# Altium footprint library NSC Switcher.PcbLib: 116 footprints (part 5 of 8)
Each footprint in its own frame and in the unit in brackets; x right, y up, seen from the top. Pads: shape width x height; smd on the part's side, far side on the other; paste and mask are expansions set on the pad; w line width, h text height; cw(c..) or ccw(c..) is an arc to the next point about the centre after c.
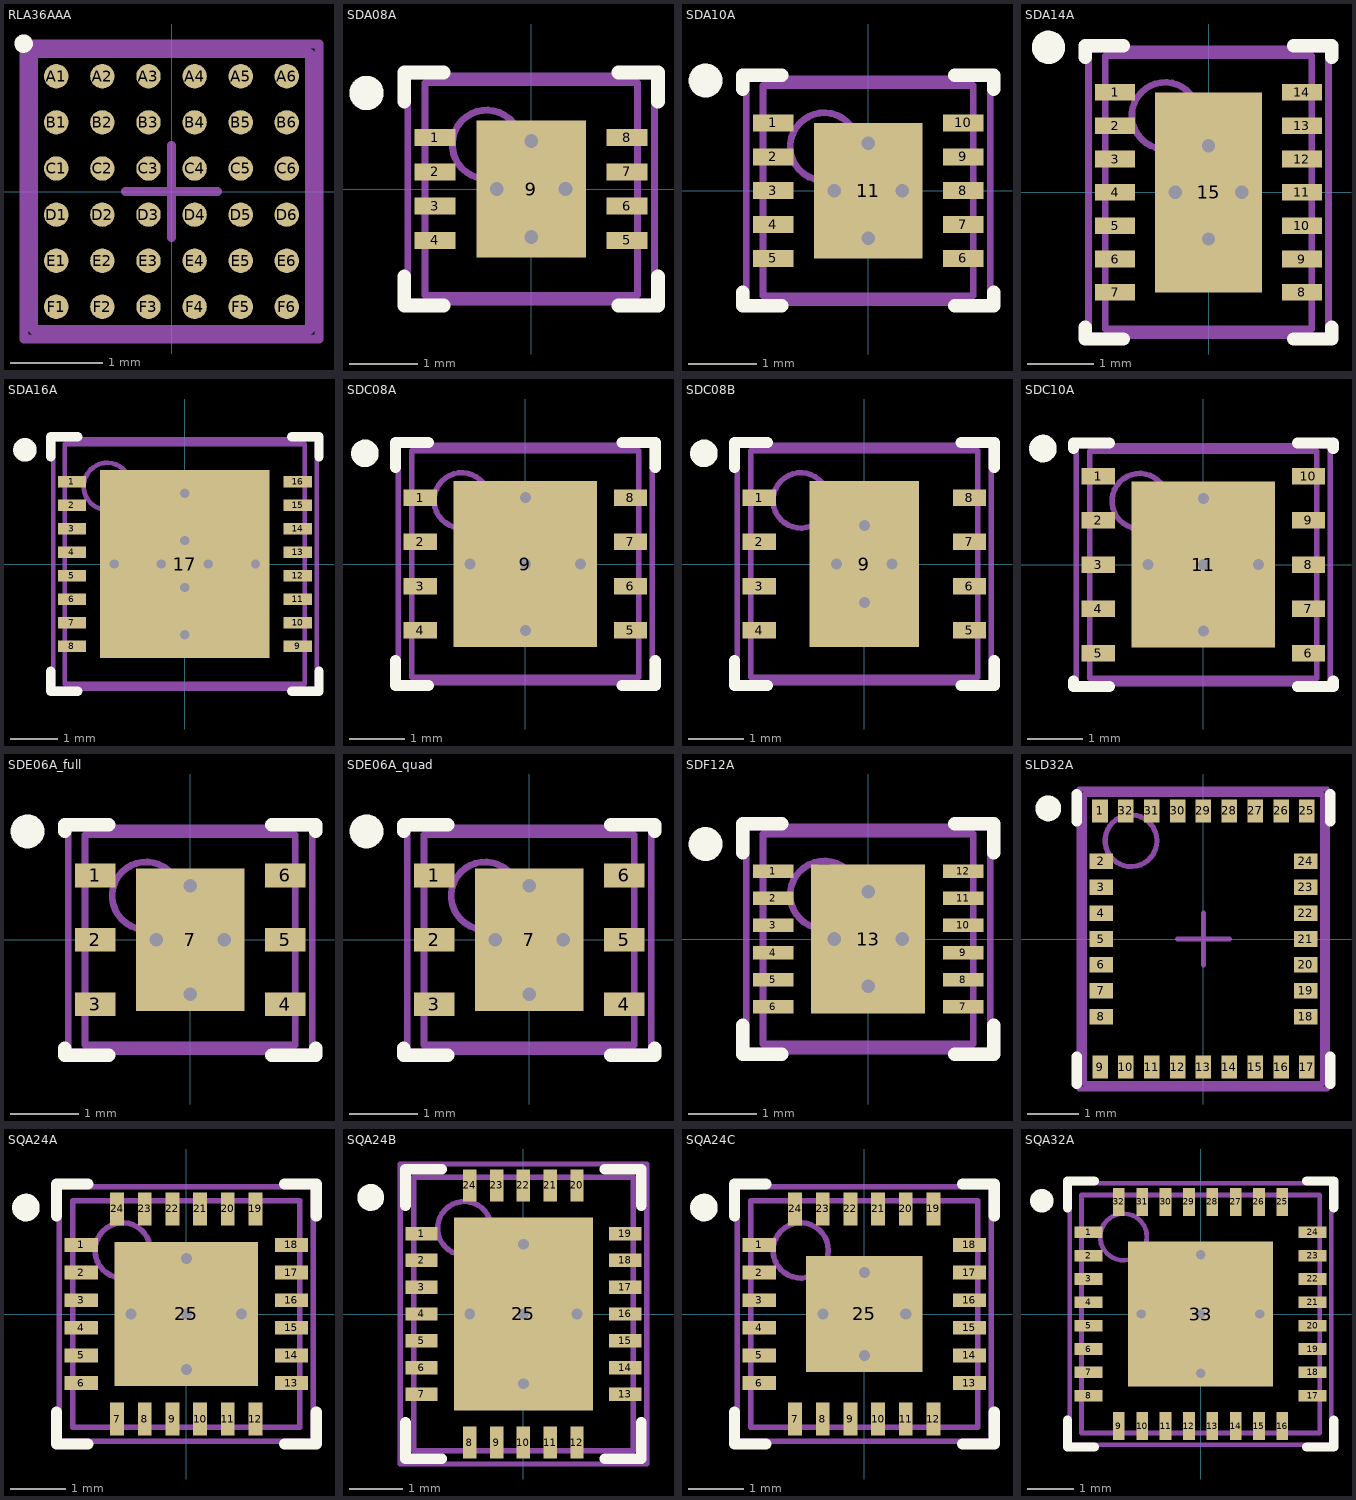
[diagram p4: the footprints below, top view; thin cyan lines are the x and y axes]

## RLA36AAA [mm] "Micro SMD, 36-Leads, Body 3x3mm, Pitch 0.5mm, NSC Recommended"
height 0.73
pads (36):
  round 0.265 smd paste-0.132 mask+0.05: A1(-1.25,1.25) A2(-0.75,1.25) A3(-0.25,1.25) A4(0.25,1.25) A5(0.75,1.25) A6(1.25,1.25) B1(-1.25,0.75) B2(-0.75,0.75) B3(-0.25,0.75) B4(0.25,0.75) B5(0.75,0.75) B6(1.25,0.75) C1(-1.25,0.25) C2(-0.75,0.25) C3(-0.25,0.25) C4(0.25,0.25) C5(0.75,0.25) C6(1.25,0.25) D1(-1.25,-0.25) D2(-0.75,-0.25) D3(-0.25,-0.25) D4(0.25,-0.25) D5(0.75,-0.25) D6(1.25,-0.25) E1(-1.25,-0.75) E2(-0.75,-0.75) E3(-0.25,-0.75) E4(0.25,-0.75) E5(0.75,-0.75) E6(1.25,-0.75) F1(-1.25,-1.25) F2(-0.75,-1.25) F3(-0.25,-1.25) F4(0.25,-1.25) F5(0.75,-1.25) F6(1.25,-1.25)
Top Overlay:
  circle w0.1: c-1.605,1.605 r0.05
Top Paste:
  drawing of 324 lines, arcs and shapes, not listed
Mechanical 13:
  lines w0.1: -1.5,-1.5 -1.5,1.5 1.5,1.5 1.5,-1.5 -1.5,-1.5
Mechanical 15:
  lines w0.1: -0.5,0 0.5,0 ; 0,-0.5 0,0.5 ; -1.6,-1.6 -1.6,1.6 1.6,1.6 1.6,-1.6 -1.6,-1.6
3D body: height 0.73, standoff 0, extent -1.5,-1.5 1.5,1.5

## SDA08A [mm] "SON, 8-Leads, Body 3x3mm, Pitch 0.5mm, NSC Recommended"
height 0.8
pads (9):
  rect 0.6x0.25 smd paste-0.125 mask+0.051: 1(-1.4,0.75) 2(-1.4,0.25) 3(-1.4,-0.25) 4(-1.4,-0.75) 5(1.4,-0.75) 6(1.4,-0.25) 7(1.4,0.25) 8(1.4,0.75)
  rect 1.6x2 smd paste-0.05 mask+0.051: 9(0,0)
via -0.5,0 diameter 0.5 hole 0.2
via 0.5,0 diameter 0.5 hole 0.2
via 0,0.7 diameter 0.5 hole 0.2
via 0,-0.7 diameter 0.5 hole 0.2
Top Overlay:
  circle w0.25: c-2.4,1.4 r0.125
  lines w0.2: -1.85,-1.275 -1.85,-1.7 -1.275,-1.7 ; -1.85,1.275 -1.85,1.7 -1.275,1.7 ; 1.275,-1.7 1.85,-1.7 1.85,-1.275 ; 1.275,1.7 1.85,1.7 1.85,1.275
Top Paste:
  region: 1.2,0.875 1.2,0.625 1.9,0.625 1.9,0.875
  region: 1.2,0.375 1.2,0.125 1.9,0.125 1.9,0.375
  region: 1.2,-0.125 1.2,-0.375 1.9,-0.375 1.9,-0.125
  region: 1.2,-0.625 1.2,-0.875 1.9,-0.875 1.9,-0.625
  region: -1.9,-0.625 -1.9,-0.875 -1.2,-0.875 -1.2,-0.625
  region: -1.9,-0.125 -1.9,-0.375 -1.2,-0.375 -1.2,-0.125
  region: -1.9,0.375 -1.9,0.125 -1.2,0.125 -1.2,0.375
  region: -1.9,0.875 -1.9,0.625 -1.2,0.625 -1.2,0.875
Mechanical 13:
  circle w0.1: c-0.65,0.65 r0.5
  lines w0.1: -1.55,-1.55 1.55,-1.55 1.55,1.55 -1.55,1.55 -1.55,-1.55
Mechanical 15:
  lines w0.1: -0.5,0 0.5,0 ; 0,-0.5 0,0.5 ; -1.8,-1.65 1.8,-1.65 1.8,1.65 -1.8,1.65 -1.8,-1.65
3D body: height 0.8, standoff 0, extent -1.55,-1.55 1.55,1.55

## SDA10A [mm] "SON, 10-Leads, Body 3x3 mm, Pitch 0.5mm, NSC Recommended"
height 0.8
pads (11):
  rect 0.6x0.25 smd paste-0.125 mask+0.051: 1(-1.4,1) 2(-1.4,0.5) 3(-1.4,0) 4(-1.4,-0.5) 5(-1.4,-1) 6(1.4,-1) 7(1.4,-0.5) 8(1.4,0) 9(1.4,0.5) 10(1.4,1)
  rect 1.6x2 smd paste-0.05 mask+0.051: 11(0,0)
via -0.5,0 diameter 0.5 hole 0.2
via 0.5,0 diameter 0.5 hole 0.2
via 0,0.7 diameter 0.5 hole 0.2
via 0,-0.7 diameter 0.5 hole 0.2
Top Overlay:
  circle w0.25: c-2.4,1.625 r0.125
  lines w0.2: -1.85,-1.5 -1.85,-1.7 -1.275,-1.7 ; -1.85,1.5 -1.85,1.7 -1.275,1.7 ; 1.275,-1.7 1.85,-1.7 1.85,-1.5 ; 1.275,1.7 1.85,1.7 1.85,1.5
Top Paste:
  rectangle: -1.9,0.875 -1.2,1.125
  rectangle: -1.9,0.375 -1.2,0.625
  rectangle: -1.9,-0.125 -1.2,0.125
  rectangle: -1.9,-0.625 -1.2,-0.375
  rectangle: -1.9,-1.125 -1.2,-0.875
  region: 1.9,1.125 1.2,1.125 1.2,0.875 1.9,0.875
  region: 1.9,0.625 1.2,0.625 1.2,0.375 1.9,0.375
  region: 1.9,0.125 1.2,0.125 1.2,-0.125 1.9,-0.125
  region: 1.9,-0.375 1.2,-0.375 1.2,-0.625 1.9,-0.625
  region: 1.9,-0.875 1.2,-0.875 1.2,-1.125 1.9,-1.125
Mechanical 13:
  circle w0.1: c-0.65,0.65 r0.5
  lines w0.1: -1.55,-1.55 -1.55,1.55 1.55,1.55 1.55,-1.55 -1.55,-1.55
Mechanical 15:
  lines w0.1: -0.5,0 0.5,0 ; 0,-0.5 0,0.5 ; -1.8,-1.65 -1.8,1.65 1.8,1.65 1.8,-1.65 -1.8,-1.65
3D body: height 0.8, standoff 0, extent -1.55,-1.55 1.55,1.55

## SDA14A [mm] "SON, 14-Leads, Body 4x3mm, Pitch 0.5mm, NSC Recommended"
height 0.8
pads (15):
  rect 0.6x0.25 smd paste-0.125 mask+0.051: 1(-1.4,1.5) 2(-1.4,1) 3(-1.4,0.5) 4(-1.4,0) 5(-1.4,-0.5) 6(-1.4,-1) 7(-1.4,-1.5) 8(1.4,-1.5) 9(1.4,-1) 10(1.4,-0.5) 11(1.4,0) 12(1.4,0.5) 13(1.4,1) 14(1.4,1.5)
  rect 1.6x3 smd paste-0.8 mask+0.051: 15(0,0)
via -0.5,0 diameter 0.5 hole 0.2
via 0.5,0 diameter 0.5 hole 0.2
via 0,0.7 diameter 0.5 hole 0.2
via 0,-0.7 diameter 0.5 hole 0.2
Top Overlay:
  circle w0.25: c-2.4,2.175 r0.125
  lines w0.2: -1.85,-2.025 -1.85,-2.2 -1.275,-2.2 ; -1.85,2.025 -1.85,2.2 -1.275,2.2 ; 1.275,-2.2 1.85,-2.2 1.85,-2.025 ; 1.275,2.2 1.85,2.2 1.85,2.025
Top Paste:
  region: -0.7,-0.1 -0.7,-1.4 -0.1,-1.4 -0.1,-0.1
  region: -0.1,0.1 -0.1,1.4 -0.7,1.4 -0.7,0.1
  region: 0.7,0.1 0.7,1.4 0.1,1.4 0.1,0.1
  region: 0.1,-0.1 0.1,-1.4 0.7,-1.4 0.7,-0.1
  region: 1.2,1.625 1.2,1.375 1.9,1.375 1.9,1.625
  region: 1.2,1.125 1.2,0.875 1.9,0.875 1.9,1.125
  region: 1.2,0.625 1.2,0.375 1.9,0.375 1.9,0.625
  region: 1.2,0.125 1.2,-0.125 1.9,-0.125 1.9,0.125
  region: 1.2,-0.375 1.2,-0.625 1.9,-0.625 1.9,-0.375
  region: 1.2,-0.875 1.2,-1.125 1.9,-1.125 1.9,-0.875
  region: 1.2,-1.375 1.2,-1.625 1.9,-1.625 1.9,-1.375
  region: -1.9,-1.375 -1.9,-1.625 -1.2,-1.625 -1.2,-1.375
  region: -1.9,-0.875 -1.9,-1.125 -1.2,-1.125 -1.2,-0.875
  region: -1.9,-0.375 -1.9,-0.625 -1.2,-0.625 -1.2,-0.375
  region: -1.9,0.125 -1.9,-0.125 -1.2,-0.125 -1.2,0.125
  region: -1.9,0.625 -1.9,0.375 -1.2,0.375 -1.2,0.625
  region: -1.9,1.125 -1.9,0.875 -1.2,0.875 -1.2,1.125
  region: -1.9,1.625 -1.9,1.375 -1.2,1.375 -1.2,1.625
Mechanical 13:
  circle w0.1: c-0.65,1.15 r0.5
  lines w0.1: -1.55,-2.05 1.55,-2.05 1.55,2.05 -1.55,2.05 -1.55,-2.05
Mechanical 15:
  lines w0.1: -0.5,0 0.5,0 ; 0,-0.5 0,0.5 ; -1.8,-2.15 1.8,-2.15 1.8,2.15 -1.8,2.15 -1.8,-2.15
3D body: height 0.8, standoff 0, extent -1.55,-2.05 1.55,2.05

## SDA16A [mm] "SON, 16-Leads, Body 5x5mm, Pitch 0.5mm, NSC Recommended"
height 0.8
pads (17):
  rect 0.6x0.25 smd paste-0.125 mask+0.051: 1(-2.4,1.75) 2(-2.4,1.25) 3(-2.4,0.75) 4(-2.4,0.25) 5(-2.4,-0.25) 6(-2.4,-0.75) 7(-2.4,-1.25) 8(-2.4,-1.75) 9(2.4,-1.75) 10(2.4,-1.25) 11(2.4,-0.75) 12(2.4,-0.25) 13(2.4,0.25) 14(2.4,0.75) 15(2.4,1.25) 16(2.4,1.75)
  rect 3.6x4 smd paste-1.8 mask+0.051: 17(0,0)
via -1.5,0 diameter 0.5 hole 0.2
via 0,-1.5 diameter 0.5 hole 0.2
via 0,1.5 diameter 0.5 hole 0.2
via 1.5,0 diameter 0.5 hole 0.2
via -0.5,0 diameter 0.5 hole 0.2
via 0.5,0 diameter 0.5 hole 0.2
via 0,-0.5 diameter 0.5 hole 0.2
via 0,0.5 diameter 0.5 hole 0.2
Top Overlay:
  circle w0.25: c-3.4,2.425 r0.125
  lines w0.2: -2.85,-2.275 -2.85,-2.7 -2.275,-2.7 ; -2.85,2.275 -2.85,2.7 -2.275,2.7 ; 2.275,-2.7 2.85,-2.7 2.85,-2.275 ; 2.275,2.7 2.85,2.7 2.85,2.275
Top Paste:
  region: -1.7,-0.1 -1.7,-1.9 -0.1,-1.9 -0.1,-0.1
  region: -0.1,0.1 -0.1,1.9 -1.7,1.9 -1.7,0.1
  region: 1.7,0.1 1.7,1.9 0.1,1.9 0.1,0.1
  region: 2.2,1.875 2.2,1.625 2.9,1.625 2.9,1.875
  region: 2.2,1.375 2.2,1.125 2.9,1.125 2.9,1.375
  region: 2.2,0.875 2.2,0.625 2.9,0.625 2.9,0.875
  region: 2.2,0.375 2.2,0.125 2.9,0.125 2.9,0.375
  region: 2.2,-0.125 2.2,-0.375 2.9,-0.375 2.9,-0.125
  region: 2.2,-0.625 2.2,-0.875 2.9,-0.875 2.9,-0.625
  region: 2.2,-1.125 2.2,-1.375 2.9,-1.375 2.9,-1.125
  region: 2.2,-1.625 2.2,-1.875 2.9,-1.875 2.9,-1.625
  region: -2.9,-1.625 -2.9,-1.875 -2.2,-1.875 -2.2,-1.625
  region: -2.9,-1.125 -2.9,-1.375 -2.2,-1.375 -2.2,-1.125
  region: -2.9,-0.625 -2.9,-0.875 -2.2,-0.875 -2.2,-0.625
  region: -2.9,-0.125 -2.9,-0.375 -2.2,-0.375 -2.2,-0.125
  region: -2.9,0.375 -2.9,0.125 -2.2,0.125 -2.2,0.375
  region: -2.9,0.875 -2.9,0.625 -2.2,0.625 -2.2,0.875
  region: -2.9,1.375 -2.9,1.125 -2.2,1.125 -2.2,1.375
  region: -2.9,1.875 -2.9,1.625 -2.2,1.625 -2.2,1.875
  region: 0.1,-0.1 0.1,-1.9 1.7,-1.9 1.7,-0.1
Mechanical 13:
  circle w0.1: c-1.65,1.65 r0.5
  lines w0.1: -2.55,-2.55 -2.55,2.55 2.55,2.55 2.55,-2.55 -2.55,-2.55
Mechanical 15:
  lines w0.1: -0.5,0 0.5,0 ; 0,-0.5 0,0.5 ; -2.8,-2.65 -2.8,2.65 2.8,2.65 2.8,-2.65 -2.8,-2.65
3D body: height 0.8, standoff 0, extent -2.55,-2.55 2.55,2.55

## SDC08A [mm] "SON, 8-Leads, Body 4x4mm, Pitch 0.8mm, NSC Recommended"
height 0.8
pads (9):
  rect 0.6x0.3 smd paste-0.15 mask+0.051: 1(-1.9,1.2) 2(-1.9,0.4) 3(-1.9,-0.4) 4(-1.9,-1.2) 5(1.9,-1.2) 6(1.9,-0.4) 7(1.9,0.4) 8(1.9,1.2)
  rect 2.6x3 smd paste-1.5 mask+0.051: 9(0,0)
via 0,-1.2 diameter 0.5 hole 0.2
via 0,1.2 diameter 0.5 hole 0.2
via 1,0 diameter 0.5 hole 0.2
via 0,0 diameter 0.5 hole 0.2
via -1,0 diameter 0.5 hole 0.2
Top Overlay:
  circle w0.25: c-2.9,2 r0.125
  lines w0.2: -2.35,-1.75 -2.35,-2.2 -1.75,-2.2 ; -2.35,1.75 -2.35,2.2 -1.75,2.2 ; 1.75,-2.2 2.35,-2.2 2.35,-1.75 ; 1.75,2.2 2.35,2.2 2.35,1.75
Top Paste:
  region: -1.7,1.35 -2.4,1.35 -2.4,1.05 -1.7,1.05
  region: -1.7,0.55 -2.4,0.55 -2.4,0.25 -1.7,0.25
  region: -1.7,-0.25 -2.4,-0.25 -2.4,-0.55 -1.7,-0.55
  region: -1.7,-1.05 -2.4,-1.05 -2.4,-1.35 -1.7,-1.35
  rectangle: 1.7,-1.35 2.4,-1.05
  rectangle: 1.7,-0.55 2.4,-0.25
  rectangle: 1.7,0.25 2.4,0.55
  rectangle: 1.7,1.05 2.4,1.35
  rectangle: -1.2,0.1 -0.1,1.4
  region: 1.2,1.4 0.1,1.4 0.1,0.1 1.2,0.1
  region: 1.2,-0.1 0.1,-0.1 0.1,-1.4 1.2,-1.4
  rectangle: -1.2,-1.4 -0.1,-0.1
Mechanical 13:
  circle w0.1: c-1.15,1.15 r0.5
  lines w0.1: -2.05,-2.05 -2.05,2.05 2.05,2.05 2.05,-2.05 -2.05,-2.05
Mechanical 15:
  lines w0.1: -0.5,0 0.5,0 ; 0,-0.5 0,0.5 ; -2.3,-2.15 -2.3,2.15 2.3,2.15 2.3,-2.15 -2.3,-2.15
3D body: height 0.8, standoff 0, extent -2.05,-2.05 2.05,2.05

## SDC08B [mm] "SON, 8-Leads, Body 4x4mm, Pitch 0.8mm, NSC Recommended"
height 0.8
pads (9):
  rect 0.6x0.3 smd paste-0.15 mask+0.051: 1(-1.9,1.2) 2(-1.9,0.4) 3(-1.9,-0.4) 4(-1.9,-1.2) 5(1.9,-1.2) 6(1.9,-0.4) 7(1.9,0.4) 8(1.9,1.2)
  rect 1.98x3 smd paste-1.5 mask+0.051: 9(0,0)
via 0,-0.7 diameter 0.5 hole 0.2
via 0,0.7 diameter 0.5 hole 0.2
via 0.5,0 diameter 0.5 hole 0.2
via -0.5,0 diameter 0.5 hole 0.2
Top Overlay:
  circle w0.25: c-2.9,2 r0.125
  lines w0.2: -2.35,-1.75 -2.35,-2.2 -1.75,-2.2 ; -2.35,1.75 -2.35,2.2 -1.75,2.2 ; 1.75,-2.2 2.35,-2.2 2.35,-1.75 ; 1.75,2.2 2.35,2.2 2.35,1.75
Top Paste:
  region: -1.7,1.35 -2.4,1.35 -2.4,1.05 -1.7,1.05
  region: -1.7,0.55 -2.4,0.55 -2.4,0.25 -1.7,0.25
  region: -1.7,-0.25 -2.4,-0.25 -2.4,-0.55 -1.7,-0.55
  region: -1.7,-1.05 -2.4,-1.05 -2.4,-1.35 -1.7,-1.35
  rectangle: 1.7,-1.35 2.4,-1.05
  rectangle: 1.7,-0.55 2.4,-0.25
  rectangle: 1.7,0.25 2.4,0.55
  rectangle: 1.7,1.05 2.4,1.35
  region: 0.89,-0.15 0.15,-0.15 0.15,-1.4 0.89,-1.4
  rectangle: -0.89,-1.4 -0.15,-0.15
  rectangle: -0.89,0.15 -0.15,1.4
  region: 0.89,1.4 0.15,1.4 0.15,0.15 0.89,0.15
Mechanical 13:
  circle w0.1: c-1.15,1.15 r0.5
  lines w0.1: -2.05,-2.05 -2.05,2.05 2.05,2.05 2.05,-2.05 -2.05,-2.05
Mechanical 15:
  lines w0.1: -0.5,0 0.5,0 ; 0,-0.5 0,0.5 ; -2.3,-2.15 -2.3,2.15 2.3,2.15 2.3,-2.15 -2.3,-2.15
3D body: height 0.8, standoff 0, extent -2.05,-2.05 2.05,2.05

## SDC10A [mm] "SON, 10-Leads, Body 4x4 mm, Pitch 0.8mm, NSC Recommended"
height 0.8
pads (11):
  rect 0.6x0.3 smd paste-0.15 mask+0.051: 1(-1.9,1.6) 2(-1.9,0.8) 3(-1.9,0) 4(-1.9,-0.8) 5(-1.9,-1.6) 6(1.9,-1.6) 7(1.9,-0.8) 8(1.9,0) 9(1.9,0.8) 10(1.9,1.6)
  rect 2.6x3 smd paste-1.3 mask+0.051: 11(0,0)
via -1,0 diameter 0.5 hole 0.2
via 0,-1.2 diameter 0.5 hole 0.2
via 0,0 diameter 0.5 hole 0.2
via 0,1.2 diameter 0.5 hole 0.2
via 1,0 diameter 0.5 hole 0.2
Top Overlay:
  circle w0.25: c-2.9,2.1 r0.125
  lines w0.2: -2.35,-2.2 -2.35,-2.1 ; -2.35,2.1 -2.35,2.2 ; -2.345,-2.2 -1.7,-2.2 ; -2.345,2.2 -1.7,2.2 ; 1.7,-2.2 2.345,-2.2 ; 1.7,2.2 2.345,2.2 ; 2.35,-2.2 2.35,-2.1 ; 2.35,2.1 2.35,2.2
Top Paste:
  rectangle: 0.1,-1.4 1.2,-0.1
  region: -0.1,-0.1 -1.2,-0.1 -1.2,-1.4 -0.1,-1.4
  region: -0.1,1.4 -1.2,1.4 -1.2,0.1 -0.1,0.1
  rectangle: 0.1,0.1 1.2,1.4
  rectangle: -2.4,1.45 -1.7,1.75
  rectangle: -2.4,0.65 -1.7,0.95
  rectangle: -2.4,-0.15 -1.7,0.15
  rectangle: -2.4,-0.95 -1.7,-0.65
  rectangle: -2.4,-1.75 -1.7,-1.45
  region: 2.4,-1.45 1.7,-1.45 1.7,-1.75 2.4,-1.75
  region: 2.4,-0.65 1.7,-0.65 1.7,-0.95 2.4,-0.95
  region: 2.4,0.15 1.7,0.15 1.7,-0.15 2.4,-0.15
  region: 2.4,0.95 1.7,0.95 1.7,0.65 2.4,0.65
  region: 2.4,1.75 1.7,1.75 1.7,1.45 2.4,1.45
Mechanical 13:
  circle w0.1: c-1.15,1.15 r0.5
  lines w0.1: -2.05,-2.05 2.05,-2.05 2.05,2.05 -2.05,2.05 -2.05,-2.05
Mechanical 15:
  lines w0.1: -0.5,0 0.5,0 ; 0,-0.5 0,0.5 ; -2.3,-2.15 2.3,-2.15 2.3,2.15 -2.3,2.15 -2.3,-2.15
3D body: height 0.8, standoff 0, extent -2.049,-2.049 2.049,2.049

## SDE06A_full [mm] "SON, 6-Leads, Body 3x3 mm, Pitch 0.95mm, Full Paste, NSC Recommended"
height 0.8
pads (7):
  rect 0.6x0.35 smd paste-0.175 mask+0.051: 1(-1.4,0.95) 2(-1.4,0) 3(-1.4,-0.95) 4(1.4,-0.95) 5(1.4,0) 6(1.4,0.95)
  rect 1.6x2.1 smd paste-0.8 mask+0.051: 7(0,0)
via -0.5,0 diameter 0.5 hole 0.2
via 0,0.8 diameter 0.5 hole 0.2
via 0.5,0 diameter 0.5 hole 0.2
via 0,-0.8 diameter 0.5 hole 0.2
Top Overlay:
  circle w0.25: c-2.4,1.6 r0.125
  lines w0.2: -1.85,-1.6 -1.85,-1.7 -1.2,-1.7 ; -1.85,1.6 -1.85,1.7 -1.2,1.7 ; 1.2,-1.7 1.85,-1.7 1.85,-1.6 ; 1.2,1.7 1.85,1.7 1.85,1.6
Top Paste:
  rectangle: -1.9,0.775 -1.2,1.125
  rectangle: -1.9,-0.175 -1.2,0.175
  rectangle: -1.9,-1.125 -1.2,-0.775
  region: 1.9,-0.775 1.2,-0.775 1.2,-1.125 1.9,-1.125
  region: 1.9,0.175 1.2,0.175 1.2,-0.175 1.9,-0.175
  region: 1.9,1.125 1.2,1.125 1.2,0.775 1.9,0.775
  rectangle: -0.76,-1 0.76,1
Mechanical 13:
  circle w0.1: c-0.65,0.65 r0.5
  lines w0.1: -1.55,-1.55 -1.55,1.55 1.55,1.55 1.55,-1.55 -1.55,-1.55
Mechanical 15:
  lines w0.1: -0.5,0 0.5,0 ; 0,-0.5 0,0.5 ; -1.8,-1.65 1.8,-1.65 1.8,1.65 -1.8,1.65 -1.8,-1.65
3D body: height 0.8, standoff 0, extent -1.55,-1.55 1.55,1.55

## SDE06A_quad [mm] "SON, 6-Leads, Body 3x3 mm, Pitch 0.95mm, Quad Paste, NSC Recommended"
height 0.8
pads (7):
  rect 0.6x0.35 smd paste-0.175 mask+0.051: 1(-1.4,0.95) 2(-1.4,0) 3(-1.4,-0.95) 4(1.4,-0.95) 5(1.4,0) 6(1.4,0.95)
  rect 1.6x2.1 smd paste-0.8 mask+0.051: 7(0,0)
via 0,-0.8 diameter 0.5 hole 0.2
via 0.5,0 diameter 0.5 hole 0.2
via 0,0.8 diameter 0.5 hole 0.2
via -0.5,0 diameter 0.5 hole 0.2
Top Overlay:
  circle w0.25: c-2.4,1.6 r0.125
  lines w0.2: -1.85,-1.6 -1.85,-1.7 -1.2,-1.7 ; -1.85,1.6 -1.85,1.7 -1.2,1.7 ; 1.2,-1.7 1.85,-1.7 1.85,-1.6 ; 1.2,1.7 1.85,1.7 1.85,1.6
Top Paste:
  rectangle: 0.1,-0.95 0.7,-0.1
  region: -0.1,-0.1 -0.7,-0.1 -0.7,-0.95 -0.1,-0.95
  region: -0.1,0.95 -0.7,0.95 -0.7,0.1 -0.1,0.1
  rectangle: 0.1,0.1 0.7,0.95
  region: 1.9,1.125 1.2,1.125 1.2,0.775 1.9,0.775
  region: 1.9,0.175 1.2,0.175 1.2,-0.175 1.9,-0.175
  region: 1.9,-0.775 1.2,-0.775 1.2,-1.125 1.9,-1.125
  rectangle: -1.9,-1.125 -1.2,-0.775
  rectangle: -1.9,-0.175 -1.2,0.175
  rectangle: -1.9,0.775 -1.2,1.125
Mechanical 13:
  circle w0.1: c-0.65,0.65 r0.5
  lines w0.1: -1.55,-1.55 1.55,-1.55 1.55,1.55 -1.55,1.55 -1.55,-1.55
Mechanical 15:
  lines w0.1: -0.5,0 0.5,0 ; 0,-0.5 0,0.5 ; -1.8,-1.65 -1.8,1.65 1.8,1.65 1.8,-1.65 -1.8,-1.65
3D body: height 0.8, standoff 0, extent -1.55,-1.55 1.55,1.55

## SDF12A [mm] "SON, 12-Leads, Body 3x3mm, Pitch 0.4mm, NSC Recommended"
height 0.8
pads (13):
  rect 0.6x0.2 smd paste-0.125 mask+0.051: 1(-1.4,1) 2(-1.4,0.6) 3(-1.4,0.2) 4(-1.4,-0.2) 5(-1.4,-0.6) 6(-1.4,-1) 7(1.4,-1) 8(1.4,-0.6) 9(1.4,-0.2) 10(1.4,0.2) 11(1.4,0.6) 12(1.4,1)
  rect 1.68x2.2 smd paste-0.05 mask+0.051: 13(0,0)
via -0.5,0 diameter 0.5 hole 0.2
via 0.5,0 diameter 0.5 hole 0.2
via 0,0.7 diameter 0.5 hole 0.2
via 0,-0.7 diameter 0.5 hole 0.2
Top Overlay:
  circle w0.25: c-2.4,1.4 r0.125
  lines w0.2: -1.85,-1.275 -1.85,-1.7 -1.275,-1.7 ; -1.85,1.275 -1.85,1.7 -1.275,1.7 ; 1.275,-1.7 1.85,-1.7 1.85,-1.275 ; 1.275,1.7 1.85,1.7 1.85,1.275
Top Paste:
  region: 1.9,1.1 1.2,1.1 1.2,0.9 1.9,0.9
  region: 1.9,0.7 1.2,0.7 1.2,0.5 1.9,0.5
  region: 1.9,0.3 1.2,0.3 1.2,0.1 1.9,0.1
  region: 1.9,-0.1 1.2,-0.1 1.2,-0.3 1.9,-0.3
  region: 1.9,-0.5 1.2,-0.5 1.2,-0.7 1.9,-0.7
  region: 1.9,-0.9 1.2,-0.9 1.2,-1.1 1.9,-1.1
  rectangle: -1.9,-1.1 -1.2,-0.9
  rectangle: -1.9,-0.7 -1.2,-0.5
  rectangle: -1.9,-0.3 -1.2,-0.1
  rectangle: -1.9,0.1 -1.2,0.3
  rectangle: -1.9,0.5 -1.2,0.7
  rectangle: -1.9,0.9 -1.2,1.1
Mechanical 13:
  circle w0.1: c-0.65,0.65 r0.5
  lines w0.1: -1.55,-1.55 1.55,-1.55 1.55,1.55 -1.55,1.55 -1.55,-1.55
Mechanical 15:
  lines w0.1: -0.5,0 0.5,0 ; 0,-0.5 0,0.5 ; -1.8,-1.65 1.8,-1.65 1.8,1.65 -1.8,1.65 -1.8,-1.65
3D body: height 0.8, standoff 0, extent -1.55,-1.55 1.55,1.55

## SLD32A [mm] "PQFN, 32-Leads (9x7 pads), Body 4.5x5.5mm, Pitch 0.5mm, NSC Recommended"
height 0.8
pads (32):
  rect 0.3x0.45 smd paste-0.15 mask+0.051: 1(-2,2.475) 9(-2,-2.475) 10(-1.5,-2.475) 11(-1,-2.475) 12(-0.5,-2.475) 13(0,-2.475) 14(0.5,-2.475) 15(1,-2.475) 16(1.5,-2.475) 17(2,-2.475) 25(2,2.475) 26(1.5,2.475) 27(1,2.475) 28(0.5,2.475) 29(0,2.475) 30(-0.5,2.475) 31(-1,2.475) 32(-1.5,2.475)
  rect 0.45x0.3 smd paste-0.15 mask+0.051: 2(-1.975,1.5) 3(-1.975,1) 4(-1.975,0.5) 5(-1.975,0) 6(-1.975,-0.5) 7(-1.975,-1) 8(-1.975,-1.5) 18(1.975,-1.5) 19(1.975,-1) 20(1.975,-0.5) 21(1.975,0) 22(1.975,0.5) 23(1.975,1) 24(1.975,1.5)
Top Overlay:
  circle w0.25: c-3,2.525 r0.125
  lines w0.2: -2.45,-2.8 -2.45,-2.275 ; -2.45,2.275 -2.45,2.8 ; 2.45,-2.8 2.45,-2.275 ; 2.45,2.275 2.45,2.8
Top Paste:
  region: -2.15,2.8 -2.15,2.35 -1.85,2.35 -1.85,2.8
  region: -1.65,2.8 -1.65,2.35 -1.35,2.35 -1.35,2.8
  region: -1.15,2.8 -1.15,2.35 -0.85,2.35 -0.85,2.8
  region: -0.65,2.8 -0.65,2.35 -0.35,2.35 -0.35,2.8
  region: -0.15,2.8 -0.15,2.35 0.15,2.35 0.15,2.8
  region: 0.35,2.8 0.35,2.35 0.65,2.35 0.65,2.8
  region: 0.85,2.8 0.85,2.35 1.15,2.35 1.15,2.8
  region: 1.35,2.8 1.35,2.35 1.65,2.35 1.65,2.8
  region: 1.85,2.8 1.85,2.35 2.15,2.35 2.15,2.8
  region: 2.3,1.65 1.85,1.65 1.85,1.35 2.3,1.35
  region: 2.3,1.15 1.85,1.15 1.85,0.85 2.3,0.85
  region: 2.3,0.65 1.85,0.65 1.85,0.35 2.3,0.35
  region: 2.3,0.15 1.85,0.15 1.85,-0.15 2.3,-0.15
  region: 2.3,-0.35 1.85,-0.35 1.85,-0.65 2.3,-0.65
  region: 2.3,-0.85 1.85,-0.85 1.85,-1.15 2.3,-1.15
  region: 2.3,-1.35 1.85,-1.35 1.85,-1.65 2.3,-1.65
  region: 2.15,-2.8 2.15,-2.35 1.85,-2.35 1.85,-2.8
  region: 1.65,-2.8 1.65,-2.35 1.35,-2.35 1.35,-2.8
  region: 1.15,-2.8 1.15,-2.35 0.85,-2.35 0.85,-2.8
  region: 0.65,-2.8 0.65,-2.35 0.35,-2.35 0.35,-2.8
  region: 0.15,-2.8 0.15,-2.35 -0.15,-2.35 -0.15,-2.8
  region: -0.35,-2.8 -0.35,-2.35 -0.65,-2.35 -0.65,-2.8
  region: -0.85,-2.8 -0.85,-2.35 -1.15,-2.35 -1.15,-2.8
  region: -1.35,-2.8 -1.35,-2.35 -1.65,-2.35 -1.65,-2.8
  region: -1.85,-2.8 -1.85,-2.35 -2.15,-2.35 -2.15,-2.8
  rectangle: -2.3,-1.65 -1.85,-1.35
  rectangle: -2.3,-1.15 -1.85,-0.85
  rectangle: -2.3,-0.65 -1.85,-0.35
  rectangle: -2.3,-0.15 -1.85,0.15
  rectangle: -2.3,0.35 -1.85,0.65
  rectangle: -2.3,0.85 -1.85,1.15
  rectangle: -2.3,1.35 -1.85,1.65
Mechanical 13:
  circle w0.1: c-1.4,1.9 r0.5
  lines w0.1: -2.3,-2.8 2.3,-2.8 2.3,2.8 -2.3,2.8 -2.3,-2.8
Mechanical 15:
  lines w0.1: -0.5,0 0.5,0 ; 0,-0.5 0,0.5 ; 2.38,-2.9 -2.4,-2.9 -2.4,2.9 2.38,2.9 ; 2.4,-2.9 2.4,2.9
3D body: height 0.8, standoff 0, extent -2.299,-2.799 2.299,2.799

## SQA24A [mm] "QFN, 24-Leads, Body 4x4mm, Pitch 0.5mm, NSC Recommended"
height 0.8
pads (25):
  rect 0.6x0.25 smd paste-0.125 mask+0.051: 1(-1.9,1.25) 2(-1.9,0.75) 3(-1.9,0.25) 4(-1.9,-0.25) 5(-1.9,-0.75) 6(-1.9,-1.25) 13(1.9,-1.25) 14(1.9,-0.75) 15(1.9,-0.25) 16(1.9,0.25) 17(1.9,0.75) 18(1.9,1.25)
  rect 0.25x0.6 smd paste-0.125 mask+0.051: 7(-1.25,-1.9) 8(-0.75,-1.9) 9(-0.25,-1.9) 10(0.25,-1.9) 11(0.75,-1.9) 12(1.25,-1.9) 19(1.25,1.9) 20(0.75,1.9) 21(0.25,1.9) 22(-0.25,1.9) 23(-0.75,1.9) 24(-1.25,1.9)
  rect 2.6x2.6 smd paste-1.3 mask+0.051: 25(0,0)
via 0,-1 diameter 0.5 hole 0.2
via 0,1 diameter 0.5 hole 0.2
via -1,0 diameter 0.5 hole 0.2
via 1,0 diameter 0.5 hole 0.2
via 0,0 diameter 0.5 hole 0.2
Top Overlay:
  circle w0.25: c-2.9,1.925 r0.125
  lines w0.2: -2.35,-1.775 -2.35,-2.35 -1.775,-2.35 ; -2.35,1.775 -2.35,2.35 -1.775,2.35 ; 1.775,-2.35 2.35,-2.35 2.35,-1.775 ; 1.775,2.35 2.35,2.35 2.35,1.775
Top Paste:
  rectangle: 0.1,0.1 1.2,1.2
  region: -0.1,1.2 -1.2,1.2 -1.2,0.1 -0.1,0.1
  region: -0.1,-0.1 -1.2,-0.1 -1.2,-1.2 -0.1,-1.2
  rectangle: 0.1,-1.2 1.2,-0.1
  rectangle: -2.4,1.125 -1.7,1.375
  rectangle: -2.4,0.625 -1.7,0.875
  rectangle: -2.4,0.125 -1.7,0.375
  rectangle: -2.4,-0.375 -1.7,-0.125
  rectangle: -2.4,-0.875 -1.7,-0.625
  rectangle: -2.4,-1.375 -1.7,-1.125
  region: 1.375,-2.4 1.375,-1.7 1.125,-1.7 1.125,-2.4
  region: 0.875,-2.4 0.875,-1.7 0.625,-1.7 0.625,-2.4
  region: 0.375,-2.4 0.375,-1.7 0.125,-1.7 0.125,-2.4
  region: -0.125,-2.4 -0.125,-1.7 -0.375,-1.7 -0.375,-2.4
  region: -0.625,-2.4 -0.625,-1.7 -0.875,-1.7 -0.875,-2.4
  region: -1.125,-2.4 -1.125,-1.7 -1.375,-1.7 -1.375,-2.4
  region: 2.4,1.375 1.7,1.375 1.7,1.125 2.4,1.125
  region: 2.4,0.875 1.7,0.875 1.7,0.625 2.4,0.625
  region: 2.4,0.375 1.7,0.375 1.7,0.125 2.4,0.125
  region: 2.4,-0.125 1.7,-0.125 1.7,-0.375 2.4,-0.375
  region: 2.4,-0.625 1.7,-0.625 1.7,-0.875 2.4,-0.875
  region: 2.4,-1.125 1.7,-1.125 1.7,-1.375 2.4,-1.375
  region: -1.375,2.4 -1.375,1.7 -1.125,1.7 -1.125,2.4
  region: -0.875,2.4 -0.875,1.7 -0.625,1.7 -0.625,2.4
  region: -0.375,2.4 -0.375,1.7 -0.125,1.7 -0.125,2.4
  region: 0.125,2.4 0.125,1.7 0.375,1.7 0.375,2.4
  region: 0.625,2.4 0.625,1.7 0.875,1.7 0.875,2.4
  region: 1.125,2.4 1.125,1.7 1.375,1.7 1.375,2.4
Mechanical 13:
  circle w0.1: c-1.15,1.15 r0.5
  lines w0.1: -2.05,-2.05 2.05,-2.05 2.05,2.05 -2.05,2.05 -2.05,-2.05
Mechanical 15:
  lines w0.1: -0.5,0 0.5,0 ; 0,-0.5 0,0.5 ; -2.3,-2.3 2.3,-2.3 2.3,2.3 -2.3,2.3 -2.3,-2.3
3D body: height 0.8, standoff 0, extent -2.05,-2.05 2.05,2.05

## SQA24B [mm] "QFN, 24-Leads, Body 5x4mm, Pitch 0.5mm, NSC Recommended"
height 0.8
pads (25):
  rect 0.6x0.25 smd paste-0.3 mask+0.051: 1(-1.9,1.5) 2(-1.9,1) 3(-1.9,0.5) 4(-1.9,0) 5(-1.9,-0.5) 6(-1.9,-1) 7(-1.9,-1.5) 13(1.9,-1.5) 14(1.9,-1) 15(1.9,-0.5) 16(1.9,0) 17(1.9,0.5) 18(1.9,1) 19(1.9,1.5)
  rect 0.25x0.6 smd paste-0.3 mask+0.051: 8(-1,-2.4) 9(-0.5,-2.4) 10(0,-2.4) 11(0.5,-2.4) 12(1,-2.4) 20(1,2.4) 21(0.5,2.4) 22(0,2.4) 23(-0.5,2.4) 24(-1,2.4)
  rect 2.6x3.6 smd paste-1.3 mask+0.051: 25(0,0)
via 0,0 diameter 0.5 hole 0.2
via -1,0 diameter 0.5 hole 0.2
via 0,-1.3 diameter 0.5 hole 0.2
via 0,1.3 diameter 0.5 hole 0.2
via 1,0 diameter 0.5 hole 0.2
Top Overlay:
  circle w0.25: c-2.85,2.175 r0.125
  lines w0.2: -2.2,-2.025 -2.2,-2.7 -1.525,-2.7 ; -2.2,2.025 -2.2,2.7 -1.525,2.7 ; 1.525,-2.7 2.2,-2.7 2.2,-2.025 ; 1.525,2.7 2.2,2.7 2.2,2.025
Top Paste:
  region: 1.125,-2.9 1.125,-2.2 0.875,-2.2 0.875,-2.9
  region: 0.625,-2.9 0.625,-2.2 0.375,-2.2 0.375,-2.9
  region: 0.125,-2.9 0.125,-2.2 -0.125,-2.2 -0.125,-2.9
  region: -0.375,-2.9 -0.375,-2.2 -0.625,-2.2 -0.625,-2.9
  region: -0.875,-2.9 -0.875,-2.2 -1.125,-2.2 -1.125,-2.9
  rectangle: -2.4,-1.625 -1.7,-1.375
  rectangle: -2.4,-1.125 -1.7,-0.875
  rectangle: -2.4,-0.625 -1.7,-0.375
  rectangle: -2.4,-0.125 -1.7,0.125
  rectangle: -2.4,0.375 -1.7,0.625
  rectangle: -2.4,0.875 -1.7,1.125
  rectangle: -2.4,1.375 -1.7,1.625
  region: -1.125,2.9 -1.125,2.2 -0.875,2.2 -0.875,2.9
  region: -0.625,2.9 -0.625,2.2 -0.375,2.2 -0.375,2.9
  region: -0.125,2.9 -0.125,2.2 0.125,2.2 0.125,2.9
  region: 0.375,2.9 0.375,2.2 0.625,2.2 0.625,2.9
  region: 0.875,2.9 0.875,2.2 1.125,2.2 1.125,2.9
  region: 2.4,-1.375 1.7,-1.375 1.7,-1.625 2.4,-1.625
  region: 2.4,-0.875 1.7,-0.875 1.7,-1.125 2.4,-1.125
  region: 2.4,-0.375 1.7,-0.375 1.7,-0.625 2.4,-0.625
  region: 2.4,0.125 1.7,0.125 1.7,-0.125 2.4,-0.125
  region: 2.4,0.625 1.7,0.625 1.7,0.375 2.4,0.375
  region: 2.4,1.125 1.7,1.125 1.7,0.875 2.4,0.875
  region: 2.4,1.625 1.7,1.625 1.7,1.375 2.4,1.375
  rectangle: 0.1,0.1 1.2,1.7
  region: -0.1,1.7 -1.2,1.7 -1.2,0.1 -0.1,0.1
  region: -0.1,-0.1 -1.2,-0.1 -1.2,-1.7 -0.1,-1.7
  rectangle: 0.1,-1.7 1.2,-0.1
Mechanical 13:
  circle w0.1: c-1.1,1.6 r0.5
  lines w0.1: -2.05,-2.55 2.05,-2.55 2.05,2.55 -2.05,2.55 -2.05,-2.55
Mechanical 15:
  lines w0.1: -0.5,0 0.5,0 ; 0,-0.5 0,0.5 ; -2.3,-2.8 2.3,-2.8 2.3,2.8 -2.3,2.8 -2.3,-2.8
3D body: height 0.8, standoff 0, extent -2.05,-2.55 2.05,2.55

## SQA24C [mm] "QFN, 24-Leads, Body 4x4mm, Pitch 0.5mm, NSC Recommended"
height 0.8
pads (25):
  rect 0.6x0.25 smd paste-0.125 mask+0.051: 1(-1.9,1.25) 2(-1.9,0.75) 3(-1.9,0.25) 4(-1.9,-0.25) 5(-1.9,-0.75) 6(-1.9,-1.25) 13(1.9,-1.25) 14(1.9,-0.75) 15(1.9,-0.25) 16(1.9,0.25) 17(1.9,0.75) 18(1.9,1.25)
  rect 0.25x0.6 smd paste-0.125 mask+0.051: 7(-1.25,-1.9) 8(-0.75,-1.9) 9(-0.25,-1.9) 10(0.25,-1.9) 11(0.75,-1.9) 12(1.25,-1.9) 19(1.25,1.9) 20(0.75,1.9) 21(0.25,1.9) 22(-0.25,1.9) 23(-0.75,1.9) 24(-1.25,1.9)
  rect 2.1x2.1 smd paste-1.05 mask+0.051: 25(0,0)
via 0,-0.75 diameter 0.5 hole 0.2
via 0,0.75 diameter 0.5 hole 0.2
via -0.75,0 diameter 0.5 hole 0.2
via 0.75,0 diameter 0.5 hole 0.2
Top Overlay:
  circle w0.25: c-2.9,1.925 r0.125
  lines w0.2: -2.35,-1.775 -2.35,-2.35 -1.775,-2.35 ; -2.35,1.775 -2.35,2.35 -1.775,2.35 ; 1.775,-2.35 2.35,-2.35 2.35,-1.775 ; 1.775,2.35 2.35,2.35 2.35,1.775
Top Paste:
  rectangle: -2.4,1.125 -1.7,1.375
  rectangle: -2.4,0.625 -1.7,0.875
  rectangle: -2.4,0.125 -1.7,0.375
  rectangle: -2.4,-0.375 -1.7,-0.125
  rectangle: -2.4,-0.875 -1.7,-0.625
  rectangle: -2.4,-1.375 -1.7,-1.125
  region: 1.375,-2.4 1.375,-1.7 1.125,-1.7 1.125,-2.4
  region: 0.875,-2.4 0.875,-1.7 0.625,-1.7 0.625,-2.4
  region: 0.375,-2.4 0.375,-1.7 0.125,-1.7 0.125,-2.4
  region: -0.125,-2.4 -0.125,-1.7 -0.375,-1.7 -0.375,-2.4
  region: -0.625,-2.4 -0.625,-1.7 -0.875,-1.7 -0.875,-2.4
  region: -1.125,-2.4 -1.125,-1.7 -1.375,-1.7 -1.375,-2.4
  region: 2.4,1.375 1.7,1.375 1.7,1.125 2.4,1.125
  region: 2.4,0.875 1.7,0.875 1.7,0.625 2.4,0.625
  region: 2.4,0.375 1.7,0.375 1.7,0.125 2.4,0.125
  region: 2.4,-0.125 1.7,-0.125 1.7,-0.375 2.4,-0.375
  region: 2.4,-0.625 1.7,-0.625 1.7,-0.875 2.4,-0.875
  region: 2.4,-1.125 1.7,-1.125 1.7,-1.375 2.4,-1.375
  region: -1.375,2.4 -1.375,1.7 -1.125,1.7 -1.125,2.4
  region: -0.875,2.4 -0.875,1.7 -0.625,1.7 -0.625,2.4
  region: -0.375,2.4 -0.375,1.7 -0.125,1.7 -0.125,2.4
  region: 0.125,2.4 0.125,1.7 0.375,1.7 0.375,2.4
  region: 0.625,2.4 0.625,1.7 0.875,1.7 0.875,2.4
  region: 1.125,2.4 1.125,1.7 1.375,1.7 1.375,2.4
  rectangle: -0.95,-0.95 0.95,0.95
Mechanical 13:
  circle w0.1: c-1.15,1.15 r0.5
  lines w0.1: -2.05,-2.05 2.05,-2.05 2.05,2.05 -2.05,2.05 -2.05,-2.05
Mechanical 15:
  lines w0.1: -0.5,0 0.5,0 ; 0,-0.5 0,0.5 ; -2.3,-2.3 2.3,-2.3 2.3,2.3 -2.3,2.3 -2.3,-2.3
3D body: height 0.8, standoff 0, extent -2.05,-2.05 2.05,2.05

## SQA32A [mm] "QFN, 32-Leads, Body 5x5mm, Pitch 0.5mm, NSC Recommended"
height 0.8
pads (33):
  rect 0.6x0.25 smd paste-0.125 mask+0.051: 1(-2.4,1.75) 2(-2.4,1.25) 3(-2.4,0.75) 4(-2.4,0.25) 5(-2.4,-0.25) 6(-2.4,-0.75) 7(-2.4,-1.25) 8(-2.4,-1.75) 17(2.4,-1.75) 18(2.4,-1.25) 19(2.4,-0.75) 20(2.4,-0.25) 21(2.4,0.25) 22(2.4,0.75) 23(2.4,1.25) 24(2.4,1.75)
  rect 0.25x0.6 smd paste-0.125 mask+0.051: 9(-1.75,-2.4) 10(-1.25,-2.4) 11(-0.75,-2.4) 12(-0.25,-2.4) 13(0.25,-2.4) 14(0.75,-2.4) 15(1.25,-2.4) 16(1.75,-2.4) 25(1.75,2.4) 26(1.25,2.4) 27(0.75,2.4) 28(0.25,2.4) 29(-0.25,2.4) 30(-0.75,2.4) 31(-1.25,2.4) 32(-1.75,2.4)
  rect 3.1x3.1 smd paste-1.55 mask+0.051: 33(0,0)
via 0,-1.27 diameter 0.5 hole 0.2
via 1.27,0 diameter 0.5 hole 0.2
via 0,0 diameter 0.5 hole 0.2
via -1.27,0 diameter 0.5 hole 0.2
via 0,1.27 diameter 0.5 hole 0.2
Top Overlay:
  circle w0.25: c-3.4,2.425 r0.125
  lines w0.2: -2.85,-2.275 -2.85,-2.85 -2.275,-2.85 ; -2.85,2.275 -2.85,2.85 -2.275,2.85 ; 2.275,-2.85 2.85,-2.85 2.85,-2.275 ; 2.275,2.85 2.85,2.85 2.85,2.275
Top Paste:
  rectangle: 0.1,-1.4 1.4,-0.1
  region: -0.1,-0.1 -1.4,-0.1 -1.4,-1.4 -0.1,-1.4
  region: -0.1,1.4 -1.4,1.4 -1.4,0.1 -0.1,0.1
  rectangle: 0.1,0.1 1.4,1.4
  rectangle: -2.9,1.625 -2.2,1.875
  rectangle: -2.9,1.125 -2.2,1.375
  rectangle: -2.9,0.625 -2.2,0.875
  rectangle: -2.9,0.125 -2.2,0.375
  rectangle: -2.9,-0.375 -2.2,-0.125
  rectangle: -2.9,-0.875 -2.2,-0.625
  rectangle: -2.9,-1.375 -2.2,-1.125
  rectangle: -2.9,-1.875 -2.2,-1.625
  region: 1.875,-2.9 1.875,-2.2 1.625,-2.2 1.625,-2.9
  region: 1.375,-2.9 1.375,-2.2 1.125,-2.2 1.125,-2.9
  region: 0.875,-2.9 0.875,-2.2 0.625,-2.2 0.625,-2.9
  region: 0.375,-2.9 0.375,-2.2 0.125,-2.2 0.125,-2.9
  region: -0.125,-2.9 -0.125,-2.2 -0.375,-2.2 -0.375,-2.9
  region: -0.625,-2.9 -0.625,-2.2 -0.875,-2.2 -0.875,-2.9
  region: -1.125,-2.9 -1.125,-2.2 -1.375,-2.2 -1.375,-2.9
  region: -1.625,-2.9 -1.625,-2.2 -1.875,-2.2 -1.875,-2.9
  region: 2.9,1.875 2.2,1.875 2.2,1.625 2.9,1.625
  region: 2.9,1.375 2.2,1.375 2.2,1.125 2.9,1.125
  region: 2.9,0.875 2.2,0.875 2.2,0.625 2.9,0.625
  region: 2.9,0.375 2.2,0.375 2.2,0.125 2.9,0.125
  region: 2.9,-0.125 2.2,-0.125 2.2,-0.375 2.9,-0.375
  region: 2.9,-0.625 2.2,-0.625 2.2,-0.875 2.9,-0.875
  region: 2.9,-1.125 2.2,-1.125 2.2,-1.375 2.9,-1.375
  region: 2.9,-1.625 2.2,-1.625 2.2,-1.875 2.9,-1.875
  region: -1.875,2.9 -1.875,2.2 -1.625,2.2 -1.625,2.9
  region: -1.375,2.9 -1.375,2.2 -1.125,2.2 -1.125,2.9
  region: -0.875,2.9 -0.875,2.2 -0.625,2.2 -0.625,2.9
  region: -0.375,2.9 -0.375,2.2 -0.125,2.2 -0.125,2.9
  region: 0.125,2.9 0.125,2.2 0.375,2.2 0.375,2.9
  region: 0.625,2.9 0.625,2.2 0.875,2.2 0.875,2.9
  region: 1.125,2.9 1.125,2.2 1.375,2.2 1.375,2.9
  region: 1.625,2.9 1.625,2.2 1.875,2.2 1.875,2.9
Mechanical 13:
  circle w0.1: c-1.65,1.65 r0.5
  lines w0.1: -2.55,-2.55 2.55,-2.55 2.55,2.55 -2.55,2.55 -2.55,-2.55
Mechanical 15:
  lines w0.1: -0.5,0 0.5,0 ; 0,-0.5 0,0.5 ; -2.8,-2.8 2.8,-2.8 2.8,2.8 -2.8,2.8 -2.8,-2.8
3D body: height 0.8, standoff 0, extent -2.55,-2.55 2.55,2.55